# Altium schematic symbol library DM3CS-SF.SchLib: 1 symbol
Pins are listed as number, name and electrical type; pins without a type are passive.

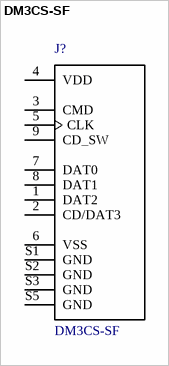
[diagram p0: symbol DM3CS-SF]

## DM3CS-SF
designator J?
Conn Micro SD Card HDR 8 POS 1.1mm Solder RA SMD Embossed T/R 0.5A; MF: Hirose; Digi-Key_Part_Number: HR1972CT-ND; SnapEDA_Link: https://www.snapeda.com/parts/DM3CS-SF/Hirose%20Electric%20Co%20Ltd/view-part/?ref=snap; Package: None; MP: DM3CS-SF; Digi-Key_Purchase_URL: https://www.digikey.com.ar/product-detail/en/hirose-electric-co-ltd/DM3CS-SF/HR1972CT-ND/2602740?utm_source=snapeda&utm_medium=aggregator&utm_campaign=symbol; Value: *
footprint *HRS_DM3CS-SF_DM3CS-SF(Primary)
pins: 1 DAT2, 2 CD/DAT3, 3 CMD, 4 VDD, 5 CLK, 6 VSS, 7 DAT0, 8 DAT1, 9 CD_SW, S1 GND, S2 GND, S3 GND, S5 GND